# EAGLE library part DAT31-R5-SP+ (library balmer)
Digital Step Attenuator
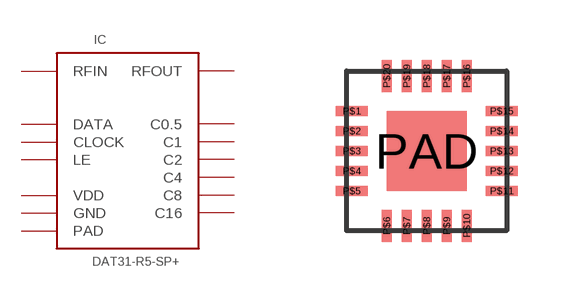
[diagram p22: symbol with the pads of DG983-1; footprint DG983-1]

Designator prefix IC

## DAT31-R5-SP+  [DG983-1]
P$1  C16
P$2  RFIN
P$3  DATA
P$4  CLOCK
P$5  LE
P$6  VDD  pwr
P$9  VDD  pwr
P$10  GND  pwr
P$11  GND  pwr
P$12  GND  pwr
P$13  VDD  pwr
P$14  RFOUT
P$15  C8
P$16  C4
P$17  C2
P$18  GND  pwr
P$19  C1
P$20  C0.5
PAD  PAD

## Footprint DG983-1 (pad centres in mm)
Use for DAT31-R5-SP+
smd 0.81 x 0.25: P$1 -1.875,1; P$2 -1.875,0.5; P$3 -1.875,0; P$4 -1.875,-0.5; P$5 -1.875,-1; P$11 1.875,-1; P$12 1.875,-0.5; P$13 1.875,0; P$14 1.875,0.5; P$15 1.875,1
smd 0.25 x 0.81: P$6 -1,-1.875; P$7 -0.5,-1.875; P$8 0,-1.875; P$9 0.5,-1.875; P$10 1,-1.875; P$16 1,1.875; P$17 0.5,1.875; P$18 0,1.875; P$19 -0.5,1.875; P$20 -1,1.875
smd 2 x 2: PAD 0,0